# Altium footprint library diods.PcbLib: 3 footprints
Each footprint in its own frame and in the unit in brackets; x right, y up, seen from the top. Pads: shape width x height; smd on the part's side, far side on the other; paste and mask are expansions set on the pad; w line width, h text height; cw(c..) or ccw(c..) is an arc to the next point about the centre after c.
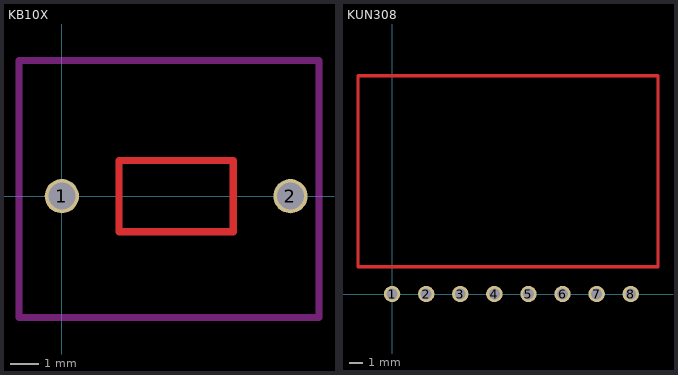
[diagram p0: the footprints below, top view; thin cyan lines are the x and y axes]

## KB10X [mm]
pads (2):
  round 1.2 hole 0.95: 1(0,0) 2(8,0)
Top Layer:
  lines w0.254: 2,-1.25 6,-1.25 6,1.25 2,1.25 2,-1.25
Top Layer keep-out:
  lines w0.254: -1.5,-4.25 9,-4.25 9,4.75 -1.5,4.75 -1.5,-4.25

## KUN308 [mm]
pads (8):
  round 1.2 hole 0.8: 1(0,0) 2(2.5,0) 3(5,0) 4(7.5,0) 5(10,0) 6(12.5,0) 7(15,0) 8(17.5,0)
Top Layer:
  lines w0.254: -2.5,2 19.5,2 19.5,16 -2.5,16 -2.5,2

## PCBComponent_1 [mm]